# EAGLE library part A-DS09A/KG-T2S (library D-Sub Connectors)
CONN D-SUB PLUG 9POS R/A SOLDER Manufacturer's datasheet <http://www.assmann-wsw.com/fileadmin/datasheets/ASS_4888_CO.pdf>
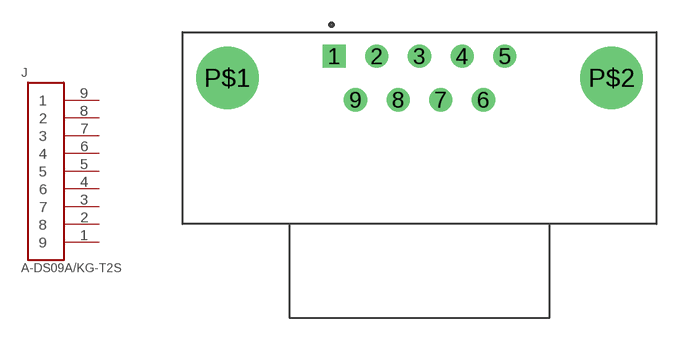
[diagram p2: symbol with the pads of A-DS09A/KG-T2S; footprint A-DS09A/KG-T2S]

Designator prefix J

## A-DS09A/KG-T2S (CREATEDBY: PCBLayout.com; DIGI_KEY_PART_NUMBER: AE10968-ND; MANUFACTURER: Assmann WSW Components; MPN: A-DS 09 A/KG-T2S)  [A-DS09A/KG-T2S]
1  9  pas
2  8  pas
3  7  pas
4  6  pas
5  5  pas
6  4  pas
7  3  pas
8  2  pas
9  1  pas

## Footprint A-DS09A/KG-T2S (pad centres in mm)
drill 1 square: 1 -5.54,1.42
drill 1: 2 -2.77,1.42; 3 0,1.42; 4 2.77,1.42; 5 5.54,1.42; 6 4.155,-1.42; 7 1.385,-1.42; 8 -1.385,-1.42; 9 -4.155,-1.42
drill 3.05: P$1 -12.495,0; P$2 12.495,0